# Altium schematic symbol library ScrewTerminal_2X.SchLib: 1 symbol
Pins are listed as number, name and electrical type; pins without a type are passive.

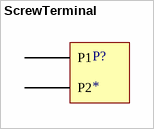
[diagram p0: symbol ScrewTerminal]

## ScrewTerminal
designator P?
footprint ScrewTerminal-X2
pins: 1 P1, 2 P2